# Altium schematic symbol library Module.SchLib: 14 symbols
Pins are listed as number, name and electrical type; pins without a type are passive.

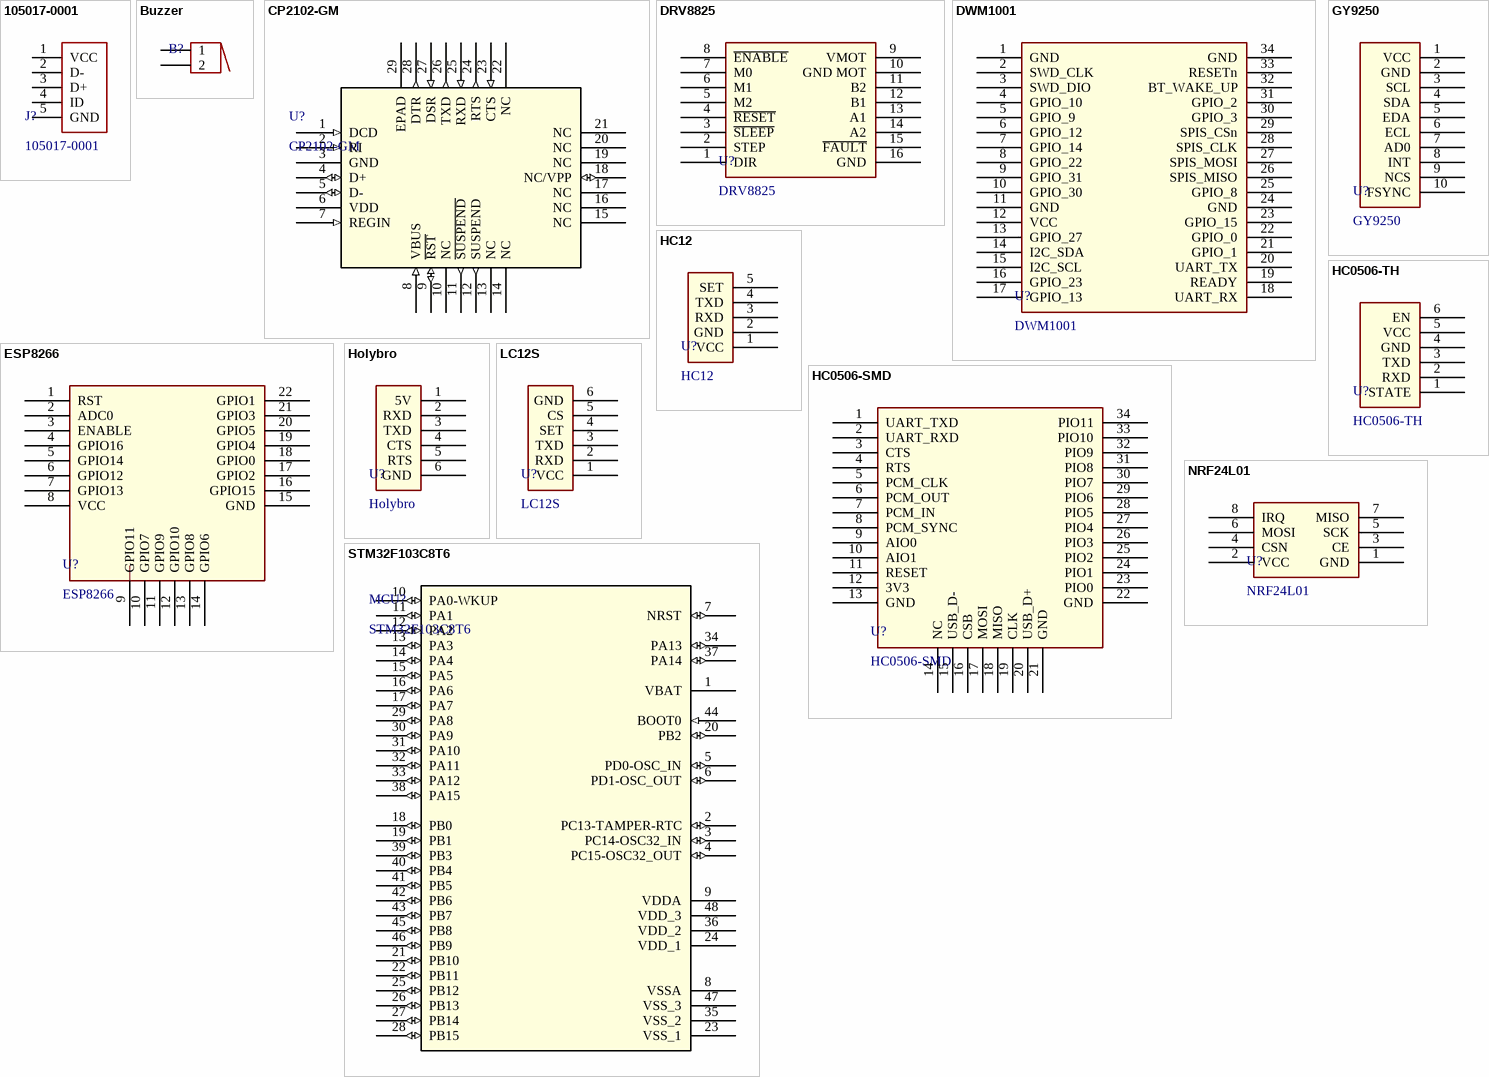
[diagram p0: symbols 105017-0001 to STM32F103C8T6]

## 105017-0001
designator J?
Manufacturer Part Number: 105017-0001
footprint CONN_105017-0001
pins: 1 VCC, 2 D-, 3 D+, 4 ID, 5 GND

## Buzzer
designator B?  (value not drawn)
Local Supplier Part Number: 1209 DIP Buzzer 12x9mm
footprint BUZZER
pins: 1, 2

## CP2102-GM
designator U?
Vendor: Silicon Labs; Built_By: EMA_UL_Team; SourceLibrary: Silicon_Labs_2015-03-23; Manufacturer_Part_Number: CP2102-GM; Copyright: Copyright (C) 2018 Accelerated Designs. All rights reserved; RefDes: RefDes; Type: DEV
footprint CP2102-GM
pins: 1 DCD (in), 2 RI (in), 3 GND (power), 4 D+ (io), 5 D- (io), 6 VDD (power), 7 REGIN (in), 8 VBUS (in), 9 ~{RST} (io), 10 NC, 11 ~{SUSPEND} (out), 12 SUSPEND (out), 13 NC, 14 NC, 15 NC, 16 NC, 17 NC, 18 NC/VPP (io), 19 NC, 20 NC, 21 NC, 22 NC, 23 CTS (in), 24 RTS (out), 25 RXD (in), 26 TXD (out), 27 DSR (in), 28 DTR (out), 29 EPAD

## DRV8825
designator U?
footprint DRV8825
pins: 1 DIR, 2 STEP, 3 ~{SLEEP}, 4 ~{RESET}, 5 M2, 6 M1, 7 M0, 8 ~{ENABLE}, 9 VMOT, 10 GND MOT, 11 B2, 12 B1, 13 A1, 14 A2, 15 ~{FAULT}, 16 GND

## DWM1001
designator U?
footprint DWM1001
pins: 1 GND, 2 SWD_CLK, 3 SWD_DIO, 4 GPIO_10, 5 GPIO_9, 6 GPIO_12, 7 GPIO_14, 8 GPIO_22, 9 GPIO_31, 10 GPIO_30, 11 GND, 12 VCC, 13 GPIO_27, 14 I2C_SDA, 15 I2C_SCL, 16 GPIO_23, 17 GPIO_13, 18 UART_RX, 19 READY, 20 UART_TX, 21 GPIO_1, 22 GPIO_0, 23 GPIO_15, 24 GND, 25 GPIO_8, 26 SPIS_MISO, 27 SPIS_MOSI, 28 SPIS_CLK, 29 SPIS_CSn, 30 GPIO_3, 31 GPIO_2, 32 BT_WAKE_UP, 33 RESETn, 34 GND

## ESP8266
designator U?
Local Supplier: HShop; Local Supplier Link: https://hshop.vn/products/kit-rf-thu-phat-wifi-esp8266-nodemcu; Local Supplier Part Number: HS000912; Manufacturer: *; Manufacturer Part Number: *
footprint ESP8266
pins: 1 RST, 2 ADC0, 3 ENABLE, 4 GPIO16, 5 GPIO14, 6 GPIO12, 7 GPIO13, 8 VCC, 9 GPIO11, 10 GPIO7, 11 GPIO9, 12 GPIO10, 13 GPIO8, 14 GPIO6, 15 GND, 16 GPIO15, 17 GPIO2, 18 GPIO0, 19 GPIO4, 20 GPIO5, 21 GPIO3, 22 GPIO1

## GY9250
designator U?
Local Supplier Part Number: *; Local Supplier Link: *; Local Supplier: HShop; Manufacturer: *; Manufacturer Part Number: *
footprint GY9250
pins: 1 VCC, 2 GND, 3 SCL, 4 SDA, 5 EDA, 6 ECL, 7 AD0, 8 INT, 9 NCS, 10 FSYNC

## HC12
designator U?
Local Supplier: HShop; Local Supplier Link: https://hshop.vn/products/mach-thu-phat-rf-uart-si4463-433mhzkhoang-coch-1km; Local Supplier Part Number: HS000897; Manufacturer: *; Manufacturer Part Number: *
footprint HC12
pins: 1 VCC, 2 GND, 3 RXD, 4 TXD, 5 SET

## HC0506-SMD
designator U?
Local Supplier: HShop; Local Supplier Part Name: HS000881; Local Supplier Link: https://hshop.vn/products/mach-thu-phat-bluetooth-hc-05-chua-ra-chon-master; Manufacturer: *; Manufacturer Part Name: *
footprint HC0506-SMD
pins: 1 UART_TXD, 2 UART_RXD, 3 CTS, 4 RTS, 5 PCM_CLK, 6 PCM_OUT, 7 PCM_IN, 8 PCM_SYNC, 9 AIO0, 10 AIO1, 11 RESET, 12 3V3, 13 GND, 14 NC, 15 USB_D-, 16 CSB, 17 MOSI, 18 MISO, 19 CLK, 20 USB_D+, 21 GND, 22 GND, 23 PIO0, 24 PIO1, 25 PIO2, 26 PIO3, 27 PIO4, 28 PIO5, 29 PIO6, 30 PIO7, 31 PIO8, 32 PIO9, 33 PIO10, 34 PIO11

## HC0506-TH
designator U?
Local Supplier: HShop; Local Supplier Link: https://hshop.vn/products/mach-thu-phat-bluetooth-hc-05-do-ra-chon-master; Local Supplier Part Number: HS000882; Manufacturer: *; Manufacturer Part Number: *
footprint HC0506-TH
pins: 1 STATE, 2 RXD, 3 TXD, 4 GND, 5 VCC, 6 EN

## Holybro
designator U?
Local Supplier: *; Local Supplier Link: *; Local Supplier Part Number: *; Manufacturer: *; Manufacturer Part Number: *
footprint Holybro
pins: 1 5V, 2 RXD, 3 TXD, 4 CTS, 5 RTS, 6 GND

## LC12S
designator U?
Local Supplier: HShop; Local Supplier Link: https://hshop.vn/products/mach-thu-phat-rf-uart-lc12s-2-4ghz; Local Supplier Part Number: HS000895; Manufacturer: *; Manufacturer Part Number: *
footprint LC12S
pins: 1 VCC, 2 RXD, 3 TXD, 4 SET, 5 CS, 6 GND

## NRF24L01
designator U?
Local Supplier: HShop; Local Supplier Part Number: HS000888; Local Supplier Link: https://hshop.vn/products/mach-thu-phat-nrf24l01-2-4ghz; Manufacturer: *; Manufacturer Part Number: *
footprint NRF24L01
pins: 1 GND, 2 VCC, 3 CE, 4 CSN, 5 SCK, 6 MOSI, 7 MISO, 8 IRQ

## STM32F103C8T6
designator MCU?
Vendor: STMicroelectronics; Built_By: EMA_UL_Team; Manufacturer_Part_Number: STM32F103C8T6; Copyright: Copyright (C) 2018 Accelerated Designs. All rights reserved; RefDes: RefDes; Type: DEV
footprint STM32F103C8T6
pins: 1 VBAT (power), 2 PC13-TAMPER-RTC (io), 3 PC14-OSC32_IN (io), 4 PC15-OSC32_OUT (io), 5 PD0-OSC_IN (io), 6 PD1-OSC_OUT (io), 7 NRST (io), 8 VSSA (power), 9 VDDA (power), 10 PA0-WKUP (io), 11 PA1 (io), 12 PA2 (io), 13 PA3 (io), 14 PA4 (io), 15 PA5 (io), 16 PA6 (io), 17 PA7 (io), 18 PB0 (io), 19 PB1 (io), 20 PB2 (io), 21 PB10 (io), 22 PB11 (io), 23 VSS_1 (power), 24 VDD_1 (power), 25 PB12 (io), 26 PB13 (io), 27 PB14 (io), 28 PB15 (io), 29 PA8 (io), 30 PA9 (io), 31 PA10 (io), 32 PA11 (io), 33 PA12 (io), 34 PA13 (io), 35 VSS_2 (power), 36 VDD_2 (power), 37 PA14 (io), 38 PA15 (io), 39 PB3 (io), 40 PB4 (io), 41 PB5 (io), 42 PB6 (io), 43 PB7 (io), 44 BOOT0 (in), 45 PB8 (io), 46 PB9 (io), 47 VSS_3 (power), 48 VDD_3 (power)